# EAGLE library part 74TTL-DIN_74*10 (library untitled)
Triple 3-input NAND gate
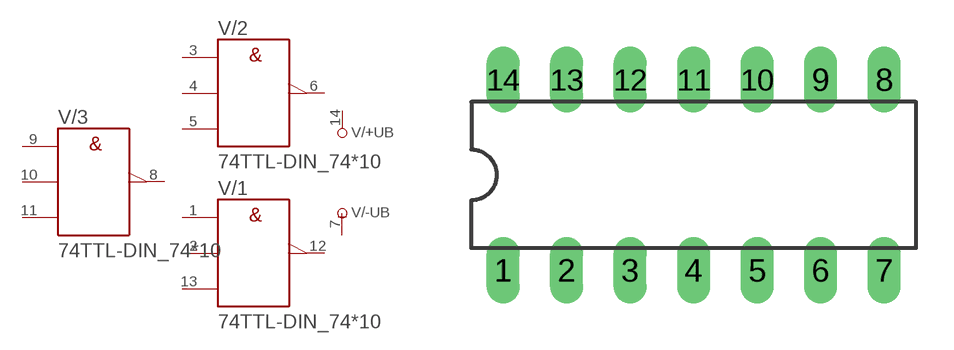
[diagram p1: symbol with the pads of 74TTL-DIN_DIL14; footprint 74TTL-DIN_DIL14]

Designator prefix V; gates /+UB=74TTL-DIN_+UB /-UB=74TTL-DIN_-UB /1=74TTL-DIN_10 /2=74TTL-DIN_10 /3=74TTL-DIN_10

## 74TTL-DIN_7410N  [74TTL-DIN_DIL14]
1  /1:A  in
2  /1:B  in
3  /2:A  in
4  /2:B  in
5  /2:C  in
6  /2:Y  out
7  /-UB:-UB  pwr
8  /3:Y  out
9  /3:A  in
10  /3:B  in
11  /3:C  in
12  /1:Y  out
13  /1:C  in
14  /+UB:+UB  pwr

## Footprint 74TTL-DIN_DIL14 (pad centres in mm)
Dual In Line Package
drill 0.813 long: 1 -7.62,-3.81; 2 -5.08,-3.81; 3 -2.54,-3.81; 4 0,-3.81; 5 2.54,-3.81; 6 5.08,-3.81; 7 7.62,-3.81; 8 7.62,3.81; 9 5.08,3.81; 10 2.54,3.81; 11 0,3.81; 12 -2.54,3.81; 13 -5.08,3.81; 14 -7.62,3.81